# Altium schematic symbol library AudioLib.SchLib: 1 symbol
Pins are listed as number, name and electrical type; pins without a type are passive.

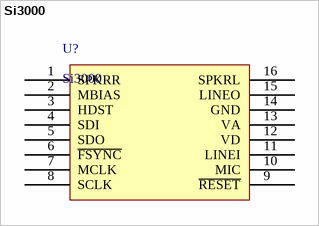
[diagram p0: symbol Si3000]

## Si3000
designator U?
footprint SOIC127P1041-16M (CERPACK, 16-Leads, Body 9.9x6.5mm, Pitch 1.27mm, IPC Low Density)
pins: 1 SPKRR, 2 MBIAS, 3 HDST, 4 SDI, 5 SDO, 6 ~{FSYNC}, 7 MCLK, 8 SCLK, 9 ~{RESET}, 10 MIC, 11 LINEI, 12 VD, 13 VA, 14 GND, 15 LINEO, 16 SPKRL